# Altium footprint library Connector_PinHeader_2.54mm.PcbLib: 278 footprints (part 7 of 18)
Each footprint in its own frame and in the unit in brackets; x right, y up, seen from the top. Pads: shape width x height; smd on the part's side, far side on the other; paste and mask are expansions set on the pad; w line width, h text height; cw(c..) or ccw(c..) is an arc to the next point about the centre after c.
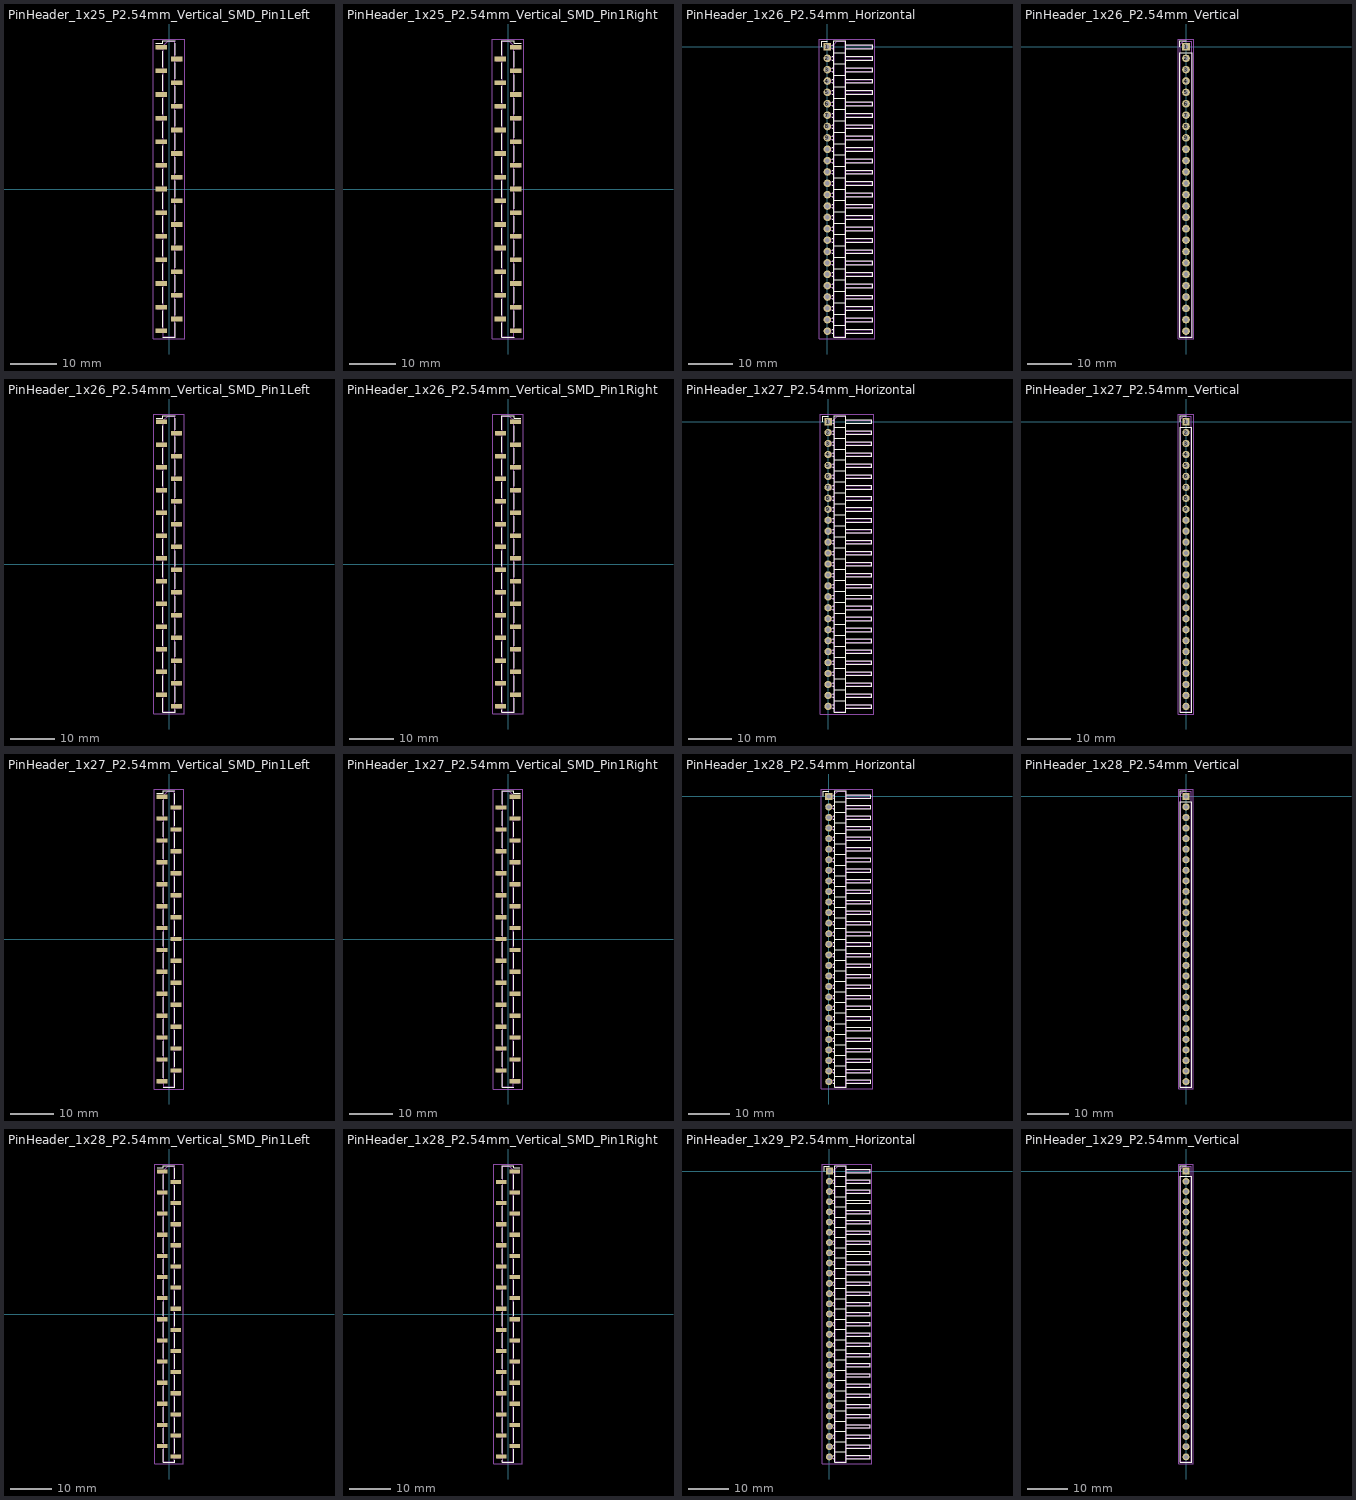
[diagram p6: the footprints below, top view; thin cyan lines are the x and y axes]

## PinHeader_1x25_P2.54mm_Vertical_SMD_Pin1Left [mm]
pads (25):
  rect 2.51x1 smd: 1(-1.655,30.48) 2(1.655,27.94) 3(-1.655,25.4) 4(1.655,22.86) 5(-1.655,20.32) 6(1.655,17.78) 7(-1.655,15.24) 8(1.655,12.7) 9(-1.655,10.16) 10(1.655,7.62) 11(-1.655,5.08) 12(1.655,2.54) 13(-1.655,0) 14(1.655,-2.54) 15(-1.655,-5.08) 16(1.655,-7.62) 17(-1.655,-10.16) 18(1.655,-12.7) 19(-1.655,-15.24) 20(1.655,-17.78) 21(-1.655,-20.32) 22(1.655,-22.86) 23(-1.655,-25.4) 24(1.655,-27.94) 25(-1.655,-30.48)
F.SilkS:
  lines w0.254: -2.85,31.29 -1.38,31.29 -1.38,31.86 1.38,31.86 ; -1.38,-31.86 1.38,-31.86 ; -1.38,-29.67 -1.38,-26.21 ; -1.38,-24.59 -1.38,-21.13 ; -1.38,-19.51 -1.38,-16.05 ; -1.38,-14.43 -1.38,-10.97 ; -1.38,-9.35 -1.38,-5.89 ; -1.38,-4.27 -1.38,-0.81 ; -1.38,0.81 -1.38,4.27 ; -1.38,5.89 -1.38,9.35 ; -1.38,10.97 -1.38,14.43 ; -1.38,16.05 -1.38,19.51 ; -1.38,21.13 -1.38,24.59 ; -1.38,26.21 -1.38,29.67 ; 1.38,-31.29 1.38,-31.86 ; 1.38,-28.75 1.38,-31.86 ; 1.38,-27.13 1.38,-23.67 ; 1.38,-22.05 1.38,-18.59 ; 1.38,-16.97 1.38,-13.51 ; 1.38,-11.89 1.38,-8.43 ; 1.38,-6.81 1.38,-3.35 ; 1.38,-1.73 1.38,1.73 ; 1.38,3.35 1.38,6.81 ; 1.38,8.43 1.38,11.89 ; 1.38,13.51 1.38,16.97 ; 1.38,18.59 1.38,22.05 ; 1.38,23.67 1.38,27.13 ; 1.38,28.75 1.38,31.29
Top Assembly:
  lines w0.254: -1.27,-30.8 -2.54,-30.8 -2.54,-30.16 -1.27,-30.16 ; -1.27,-25.72 -2.54,-25.72 -2.54,-25.08 -1.27,-25.08 ; -1.27,-20.64 -2.54,-20.64 -2.54,-20 -1.27,-20 ; -1.27,-15.56 -2.54,-15.56 -2.54,-14.92 -1.27,-14.92 ; -1.27,-10.48 -2.54,-10.48 -2.54,-9.84 -1.27,-9.84 ; -1.27,-5.4 -2.54,-5.4 -2.54,-4.76 -1.27,-4.76 ; -1.27,-0.32 -2.54,-0.32 -2.54,0.32 -1.27,0.32 ; -1.27,4.76 -2.54,4.76 -2.54,5.4 -1.27,5.4 ; -1.27,9.84 -2.54,9.84 -2.54,10.48 -1.27,10.48 ; -1.27,14.92 -2.54,14.92 -2.54,15.56 -1.27,15.56 ; -1.27,20 -2.54,20 -2.54,20.64 -1.27,20.64 ; -1.27,25.08 -2.54,25.08 -2.54,25.72 -1.27,25.72 ; -1.27,30.16 -2.54,30.16 -2.54,30.8 -1.27,30.8 ; 1.27,-28.26 2.54,-28.26 2.54,-27.62 1.27,-27.62 ; 1.27,-23.18 2.54,-23.18 2.54,-22.54 1.27,-22.54 ; 1.27,-18.1 2.54,-18.1 2.54,-17.46 1.27,-17.46 ; 1.27,-13.02 2.54,-13.02 2.54,-12.38 1.27,-12.38 ; 1.27,-7.94 2.54,-7.94 2.54,-7.3 1.27,-7.3 ; 1.27,-2.86 2.54,-2.86 2.54,-2.22 1.27,-2.22 ; 1.27,2.22 2.54,2.22 2.54,2.86 1.27,2.86 ; 1.27,7.3 2.54,7.3 2.54,7.94 1.27,7.94 ; 1.27,12.38 2.54,12.38 2.54,13.02 1.27,13.02 ; 1.27,17.46 2.54,17.46 2.54,18.1 1.27,18.1 ; 1.27,22.54 2.54,22.54 2.54,23.18 1.27,23.18 ; 1.27,27.62 2.54,27.62 2.54,28.26 1.27,28.26 ; -1.27,30.8 -1.27,-31.75 1.27,-31.75 1.27,31.75 -0.32,31.75 -1.27,30.8
  text "'.Designator'" at 0.84,-4.047 h1
Top Courtyard:
  lines w0.254: -3.41,-32.25 3.41,-32.25 3.41,32.25 -3.41,32.25 -3.41,-32.25
Top Designator:
  text ".Designator" at -7.618,-0.508 h1.52

## PinHeader_1x25_P2.54mm_Vertical_SMD_Pin1Right [mm]
pads (25):
  rect 2.51x1 smd: 1(1.655,30.48) 2(-1.655,27.94) 3(1.655,25.4) 4(-1.655,22.86) 5(1.655,20.32) 6(-1.655,17.78) 7(1.655,15.24) 8(-1.655,12.7) 9(1.655,10.16) 10(-1.655,7.62) 11(1.655,5.08) 12(-1.655,2.54) 13(1.655,0) 14(-1.655,-2.54) 15(1.655,-5.08) 16(-1.655,-7.62) 17(1.655,-10.16) 18(-1.655,-12.7) 19(1.655,-15.24) 20(-1.655,-17.78) 21(1.655,-20.32) 22(-1.655,-22.86) 23(1.655,-25.4) 24(-1.655,-27.94) 25(1.655,-30.48)
F.SilkS:
  lines w0.254: -1.38,-31.29 -1.38,-31.86 ; -1.38,-28.75 -1.38,-31.86 ; -1.38,-27.13 -1.38,-23.67 ; -1.38,-22.05 -1.38,-18.59 ; -1.38,-16.97 -1.38,-13.51 ; -1.38,-11.89 -1.38,-8.43 ; -1.38,-6.81 -1.38,-3.35 ; -1.38,-1.73 -1.38,1.73 ; -1.38,3.35 -1.38,6.81 ; -1.38,8.43 -1.38,11.89 ; -1.38,13.51 -1.38,16.97 ; -1.38,18.59 -1.38,22.05 ; -1.38,23.67 -1.38,27.13 ; -1.38,31.29 -1.38,28.75 -1.38,31.86 1.38,31.86 1.38,31.29 2.85,31.29 ; 1.38,-31.86 -1.38,-31.86 ; 1.38,-29.67 1.38,-26.21 ; 1.38,-24.59 1.38,-21.13 ; 1.38,-19.51 1.38,-16.05 ; 1.38,-14.43 1.38,-10.97 ; 1.38,-9.35 1.38,-5.89 ; 1.38,-4.27 1.38,-0.81 ; 1.38,0.81 1.38,4.27 ; 1.38,5.89 1.38,9.35 ; 1.38,10.97 1.38,14.43 ; 1.38,16.05 1.38,19.51 ; 1.38,21.13 1.38,24.59 ; 1.38,26.21 1.38,29.67
Top Assembly:
  lines w0.254: -1.27,-28.26 -2.54,-28.26 -2.54,-27.62 -1.27,-27.62 ; -1.27,-23.18 -2.54,-23.18 -2.54,-22.54 -1.27,-22.54 ; -1.27,-18.1 -2.54,-18.1 -2.54,-17.46 -1.27,-17.46 ; -1.27,-13.02 -2.54,-13.02 -2.54,-12.38 -1.27,-12.38 ; -1.27,-7.94 -2.54,-7.94 -2.54,-7.3 -1.27,-7.3 ; -1.27,-2.86 -2.54,-2.86 -2.54,-2.22 -1.27,-2.22 ; -1.27,2.22 -2.54,2.22 -2.54,2.86 -1.27,2.86 ; -1.27,7.3 -2.54,7.3 -2.54,7.94 -1.27,7.94 ; -1.27,12.38 -2.54,12.38 -2.54,13.02 -1.27,13.02 ; -1.27,17.46 -2.54,17.46 -2.54,18.1 -1.27,18.1 ; -1.27,22.54 -2.54,22.54 -2.54,23.18 -1.27,23.18 ; -1.27,27.62 -2.54,27.62 -2.54,28.26 -1.27,28.26 ; 1.27,-30.8 2.54,-30.8 2.54,-30.16 1.27,-30.16 ; 1.27,-25.72 2.54,-25.72 2.54,-25.08 1.27,-25.08 ; 1.27,-20.64 2.54,-20.64 2.54,-20 1.27,-20 ; 1.27,-15.56 2.54,-15.56 2.54,-14.92 1.27,-14.92 ; 1.27,-10.48 2.54,-10.48 2.54,-9.84 1.27,-9.84 ; 1.27,-5.4 2.54,-5.4 2.54,-4.76 1.27,-4.76 ; 1.27,-0.32 2.54,-0.32 2.54,0.32 1.27,0.32 ; 1.27,4.76 2.54,4.76 2.54,5.4 1.27,5.4 ; 1.27,9.84 2.54,9.84 2.54,10.48 1.27,10.48 ; 1.27,14.92 2.54,14.92 2.54,15.56 1.27,15.56 ; 1.27,20 2.54,20 2.54,20.64 1.27,20.64 ; 1.27,25.08 2.54,25.08 2.54,25.72 1.27,25.72 ; 1.27,30.16 2.54,30.16 2.54,30.8 1.27,30.8 ; 1.27,30.8 1.27,-31.75 -1.27,-31.75 -1.27,31.75 0.32,31.75 1.27,30.8
  text "'.Designator'" at 0.84,-4.047 h1
Top Courtyard:
  lines w0.254: -3.41,-32.25 3.41,-32.25 3.41,32.25 -3.41,32.25 -3.41,-32.25
Top Designator:
  text ".Designator" at -7.618,-0.508 h1.52

## PinHeader_1x26_P2.54mm_Horizontal [mm]
pads (26):
  rect 1.7x1.7 hole 1: 1(0,0)
  round 1.7 hole 1: 2(0,-2.54) 3(0,-5.08) 4(0,-7.62) 5(0,-10.16) 6(0,-12.7) 7(0,-15.24) 8(0,-17.78) 9(0,-20.32) 10(0,-22.86) 11(0,-25.4) 12(0,-27.94) 13(0,-30.48) 14(0,-33.02) 15(0,-35.56) 16(0,-38.1) 17(0,-40.64) 18(0,-43.18) 19(0,-45.72) 20(0,-48.26) 21(0,-50.8) 22(0,-53.34) 23(0,-55.88) 24(0,-58.42) 25(0,-60.96) 26(0,-63.5)
F.SilkS:
  drawing of 162 lines, arcs and shapes, not listed
Top Assembly:
  drawing of 161 lines, arcs and shapes, not listed
  text "'.Designator'" at 3.61,-35.797 h1
Top Courtyard:
  lines w0.254: -1.77,-65.27 10.54,-65.27 10.54,1.77 -1.77,1.77 -1.77,-65.27
Top Designator:
  text ".Designator" at -3.233,-32.258 h1.52

## PinHeader_1x26_P2.54mm_Vertical [mm]
pads (26):
  rect 1.7x1.7 hole 1: 1(0,0)
  round 1.7 hole 1: 2(0,-2.54) 3(0,-5.08) 4(0,-7.62) 5(0,-10.16) 6(0,-12.7) 7(0,-15.24) 8(0,-17.78) 9(0,-20.32) 10(0,-22.86) 11(0,-25.4) 12(0,-27.94) 13(0,-30.48) 14(0,-33.02) 15(0,-35.56) 16(0,-38.1) 17(0,-40.64) 18(0,-43.18) 19(0,-45.72) 20(0,-48.26) 21(0,-50.8) 22(0,-53.34) 23(0,-55.88) 24(0,-58.42) 25(0,-60.96) 26(0,-63.5)
F.SilkS:
  lines w0.254: -1.38,0 -1.38,1.38 0,1.38 ; -1.38,-64.88 1.38,-64.88 1.38,-1.27 -1.38,-1.27 -1.38,-64.88
Top Assembly:
  lines w0.254: -1.27,-64.77 1.27,-64.77 1.27,1.27 -0.635,1.27 -1.27,0.635 -1.27,-64.77
  text "'.Designator'" at 0.84,-35.797 h1
Top Courtyard:
  lines w0.254: -1.77,-65.27 1.77,-65.27 1.77,1.77 -1.77,1.77 -1.77,-65.27
Top Designator:
  text ".Designator" at -7.618,-32.258 h1.52

## PinHeader_1x26_P2.54mm_Vertical_SMD_Pin1Left [mm]
pads (26):
  rect 2.51x1 smd: 1(-1.655,31.75) 2(1.655,29.21) 3(-1.655,26.67) 4(1.655,24.13) 5(-1.655,21.59) 6(1.655,19.05) 7(-1.655,16.51) 8(1.655,13.97) 9(-1.655,11.43) 10(1.655,8.89) 11(-1.655,6.35) 12(1.655,3.81) 13(-1.655,1.27) 14(1.655,-1.27) 15(-1.655,-3.81) 16(1.655,-6.35) 17(-1.655,-8.89) 18(1.655,-11.43) 19(-1.655,-13.97) 20(1.655,-16.51) 21(-1.655,-19.05) 22(1.655,-21.59) 23(-1.655,-24.13) 24(1.655,-26.67) 25(-1.655,-29.21) 26(1.655,-31.75)
F.SilkS:
  lines w0.254: -2.85,32.56 -1.38,32.56 -1.38,33.13 1.38,33.13 ; -1.38,-30.02 -1.38,-33.13 1.38,-33.13 1.38,-32.56 ; -1.38,-28.4 -1.38,-24.94 ; -1.38,-23.32 -1.38,-19.86 ; -1.38,-18.24 -1.38,-14.78 ; -1.38,-13.16 -1.38,-9.7 ; -1.38,-8.08 -1.38,-4.62 ; -1.38,-3 -1.38,0.46 ; -1.38,2.08 -1.38,5.54 ; -1.38,7.16 -1.38,10.62 ; -1.38,12.24 -1.38,15.7 ; -1.38,17.32 -1.38,20.78 ; -1.38,22.4 -1.38,25.86 ; -1.38,27.48 -1.38,30.94 ; 1.38,-30.94 1.38,-27.48 ; 1.38,-25.86 1.38,-22.4 ; 1.38,-20.78 1.38,-17.32 ; 1.38,-15.7 1.38,-12.24 ; 1.38,-10.62 1.38,-7.16 ; 1.38,-5.54 1.38,-2.08 ; 1.38,-0.46 1.38,3 ; 1.38,4.62 1.38,8.08 ; 1.38,9.7 1.38,13.16 ; 1.38,14.78 1.38,18.24 ; 1.38,19.86 1.38,23.32 ; 1.38,24.94 1.38,28.4 ; 1.38,30.02 1.38,32.56
Top Assembly:
  lines w0.254: -1.27,-29.53 -2.54,-29.53 -2.54,-28.89 -1.27,-28.89 ; -1.27,-24.45 -2.54,-24.45 -2.54,-23.81 -1.27,-23.81 ; -1.27,-19.37 -2.54,-19.37 -2.54,-18.73 -1.27,-18.73 ; -1.27,-14.29 -2.54,-14.29 -2.54,-13.65 -1.27,-13.65 ; -1.27,-9.21 -2.54,-9.21 -2.54,-8.57 -1.27,-8.57 ; -1.27,-4.13 -2.54,-4.13 -2.54,-3.49 -1.27,-3.49 ; -1.27,0.95 -2.54,0.95 -2.54,1.59 -1.27,1.59 ; -1.27,6.03 -2.54,6.03 -2.54,6.67 -1.27,6.67 ; -1.27,11.11 -2.54,11.11 -2.54,11.75 -1.27,11.75 ; -1.27,16.19 -2.54,16.19 -2.54,16.83 -1.27,16.83 ; -1.27,21.27 -2.54,21.27 -2.54,21.91 -1.27,21.91 ; -1.27,26.35 -2.54,26.35 -2.54,26.99 -1.27,26.99 ; -1.27,31.43 -2.54,31.43 -2.54,32.07 -1.27,32.07 ; 1.27,-32.07 2.54,-32.07 2.54,-31.43 1.27,-31.43 ; 1.27,-26.99 2.54,-26.99 2.54,-26.35 1.27,-26.35 ; 1.27,-21.91 2.54,-21.91 2.54,-21.27 1.27,-21.27 ; 1.27,-16.83 2.54,-16.83 2.54,-16.19 1.27,-16.19 ; 1.27,-11.75 2.54,-11.75 2.54,-11.11 1.27,-11.11 ; 1.27,-6.67 2.54,-6.67 2.54,-6.03 1.27,-6.03 ; 1.27,-1.59 2.54,-1.59 2.54,-0.95 1.27,-0.95 ; 1.27,3.49 2.54,3.49 2.54,4.13 1.27,4.13 ; 1.27,8.57 2.54,8.57 2.54,9.21 1.27,9.21 ; 1.27,13.65 2.54,13.65 2.54,14.29 1.27,14.29 ; 1.27,18.73 2.54,18.73 2.54,19.37 1.27,19.37 ; 1.27,23.81 2.54,23.81 2.54,24.45 1.27,24.45 ; 1.27,28.89 2.54,28.89 2.54,29.53 1.27,29.53 ; -1.27,32.07 -1.27,-33.02 1.27,-33.02 1.27,33.02 -0.32,33.02 -1.27,32.07
  text "'.Designator'" at 0.84,-4.047 h1
Top Courtyard:
  lines w0.254: -3.41,-33.52 3.41,-33.52 3.41,33.52 -3.41,33.52 -3.41,-33.52
Top Designator:
  text ".Designator" at -7.618,-0.508 h1.52

## PinHeader_1x26_P2.54mm_Vertical_SMD_Pin1Right [mm]
pads (26):
  rect 2.51x1 smd: 1(1.655,31.75) 2(-1.655,29.21) 3(1.655,26.67) 4(-1.655,24.13) 5(1.655,21.59) 6(-1.655,19.05) 7(1.655,16.51) 8(-1.655,13.97) 9(1.655,11.43) 10(-1.655,8.89) 11(1.655,6.35) 12(-1.655,3.81) 13(1.655,1.27) 14(-1.655,-1.27) 15(1.655,-3.81) 16(-1.655,-6.35) 17(1.655,-8.89) 18(-1.655,-11.43) 19(1.655,-13.97) 20(-1.655,-16.51) 21(1.655,-19.05) 22(-1.655,-21.59) 23(1.655,-24.13) 24(-1.655,-26.67) 25(1.655,-29.21) 26(-1.655,-31.75)
F.SilkS:
  lines w0.254: -1.38,-32.56 -1.38,-33.13 1.38,-33.13 1.38,-30.02 ; -1.38,-30.94 -1.38,-27.48 ; -1.38,-25.86 -1.38,-22.4 ; -1.38,-20.78 -1.38,-17.32 ; -1.38,-15.7 -1.38,-12.24 ; -1.38,-10.62 -1.38,-7.16 ; -1.38,-5.54 -1.38,-2.08 ; -1.38,-0.46 -1.38,3 ; -1.38,4.62 -1.38,8.08 ; -1.38,9.7 -1.38,13.16 ; -1.38,14.78 -1.38,18.24 ; -1.38,19.86 -1.38,23.32 ; -1.38,24.94 -1.38,28.4 ; -1.38,32.56 -1.38,30.02 -1.38,33.13 1.38,33.13 1.38,32.56 2.85,32.56 ; 1.38,-28.4 1.38,-24.94 ; 1.38,-23.32 1.38,-19.86 ; 1.38,-18.24 1.38,-14.78 ; 1.38,-13.16 1.38,-9.7 ; 1.38,-8.08 1.38,-4.62 ; 1.38,-3 1.38,0.46 ; 1.38,2.08 1.38,5.54 ; 1.38,7.16 1.38,10.62 ; 1.38,12.24 1.38,15.7 ; 1.38,17.32 1.38,20.78 ; 1.38,22.4 1.38,25.86 ; 1.38,27.48 1.38,30.94
Top Assembly:
  lines w0.254: -1.27,-32.07 -2.54,-32.07 -2.54,-31.43 -1.27,-31.43 ; -1.27,-26.99 -2.54,-26.99 -2.54,-26.35 -1.27,-26.35 ; -1.27,-21.91 -2.54,-21.91 -2.54,-21.27 -1.27,-21.27 ; -1.27,-16.83 -2.54,-16.83 -2.54,-16.19 -1.27,-16.19 ; -1.27,-11.75 -2.54,-11.75 -2.54,-11.11 -1.27,-11.11 ; -1.27,-6.67 -2.54,-6.67 -2.54,-6.03 -1.27,-6.03 ; -1.27,-1.59 -2.54,-1.59 -2.54,-0.95 -1.27,-0.95 ; -1.27,3.49 -2.54,3.49 -2.54,4.13 -1.27,4.13 ; -1.27,8.57 -2.54,8.57 -2.54,9.21 -1.27,9.21 ; -1.27,13.65 -2.54,13.65 -2.54,14.29 -1.27,14.29 ; -1.27,18.73 -2.54,18.73 -2.54,19.37 -1.27,19.37 ; -1.27,23.81 -2.54,23.81 -2.54,24.45 -1.27,24.45 ; -1.27,28.89 -2.54,28.89 -2.54,29.53 -1.27,29.53 ; 1.27,-29.53 2.54,-29.53 2.54,-28.89 1.27,-28.89 ; 1.27,-24.45 2.54,-24.45 2.54,-23.81 1.27,-23.81 ; 1.27,-19.37 2.54,-19.37 2.54,-18.73 1.27,-18.73 ; 1.27,-14.29 2.54,-14.29 2.54,-13.65 1.27,-13.65 ; 1.27,-9.21 2.54,-9.21 2.54,-8.57 1.27,-8.57 ; 1.27,-4.13 2.54,-4.13 2.54,-3.49 1.27,-3.49 ; 1.27,0.95 2.54,0.95 2.54,1.59 1.27,1.59 ; 1.27,6.03 2.54,6.03 2.54,6.67 1.27,6.67 ; 1.27,11.11 2.54,11.11 2.54,11.75 1.27,11.75 ; 1.27,16.19 2.54,16.19 2.54,16.83 1.27,16.83 ; 1.27,21.27 2.54,21.27 2.54,21.91 1.27,21.91 ; 1.27,26.35 2.54,26.35 2.54,26.99 1.27,26.99 ; 1.27,31.43 2.54,31.43 2.54,32.07 1.27,32.07 ; 1.27,32.07 1.27,-33.02 -1.27,-33.02 -1.27,33.02 0.32,33.02 1.27,32.07
  text "'.Designator'" at 0.84,-4.047 h1
Top Courtyard:
  lines w0.254: -3.41,-33.52 3.41,-33.52 3.41,33.52 -3.41,33.52 -3.41,-33.52
Top Designator:
  text ".Designator" at -7.618,-0.508 h1.52

## PinHeader_1x27_P2.54mm_Horizontal [mm]
pads (27):
  rect 1.7x1.7 hole 1: 1(0,0)
  round 1.7 hole 1: 2(0,-2.54) 3(0,-5.08) 4(0,-7.62) 5(0,-10.16) 6(0,-12.7) 7(0,-15.24) 8(0,-17.78) 9(0,-20.32) 10(0,-22.86) 11(0,-25.4) 12(0,-27.94) 13(0,-30.48) 14(0,-33.02) 15(0,-35.56) 16(0,-38.1) 17(0,-40.64) 18(0,-43.18) 19(0,-45.72) 20(0,-48.26) 21(0,-50.8) 22(0,-53.34) 23(0,-55.88) 24(0,-58.42) 25(0,-60.96) 26(0,-63.5) 27(0,-66.04)
F.SilkS:
  drawing of 168 lines, arcs and shapes, not listed
Top Assembly:
  drawing of 167 lines, arcs and shapes, not listed
  text "'.Designator'" at 3.61,-37.067 h1
Top Courtyard:
  lines w0.254: -1.77,-67.81 10.54,-67.81 10.54,1.77 -1.77,1.77 -1.77,-67.81
Top Designator:
  text ".Designator" at -3.233,-33.528 h1.52

## PinHeader_1x27_P2.54mm_Vertical [mm]
pads (27):
  rect 1.7x1.7 hole 1: 1(0,0)
  round 1.7 hole 1: 2(0,-2.54) 3(0,-5.08) 4(0,-7.62) 5(0,-10.16) 6(0,-12.7) 7(0,-15.24) 8(0,-17.78) 9(0,-20.32) 10(0,-22.86) 11(0,-25.4) 12(0,-27.94) 13(0,-30.48) 14(0,-33.02) 15(0,-35.56) 16(0,-38.1) 17(0,-40.64) 18(0,-43.18) 19(0,-45.72) 20(0,-48.26) 21(0,-50.8) 22(0,-53.34) 23(0,-55.88) 24(0,-58.42) 25(0,-60.96) 26(0,-63.5) 27(0,-66.04)
F.SilkS:
  lines w0.254: -1.38,0 -1.38,1.38 0,1.38 ; -1.38,-67.42 1.38,-67.42 1.38,-1.27 -1.38,-1.27 -1.38,-67.42
Top Assembly:
  lines w0.254: -1.27,-67.31 1.27,-67.31 1.27,1.27 -0.635,1.27 -1.27,0.635 -1.27,-67.31
  text "'.Designator'" at 0.84,-37.067 h1
Top Courtyard:
  lines w0.254: -1.77,-67.81 1.77,-67.81 1.77,1.77 -1.77,1.77 -1.77,-67.81
Top Designator:
  text ".Designator" at -7.618,-33.528 h1.52

## PinHeader_1x27_P2.54mm_Vertical_SMD_Pin1Left [mm]
pads (27):
  rect 2.51x1 smd: 1(-1.655,33.02) 2(1.655,30.48) 3(-1.655,27.94) 4(1.655,25.4) 5(-1.655,22.86) 6(1.655,20.32) 7(-1.655,17.78) 8(1.655,15.24) 9(-1.655,12.7) 10(1.655,10.16) 11(-1.655,7.62) 12(1.655,5.08) 13(-1.655,2.54) 14(1.655,0) 15(-1.655,-2.54) 16(1.655,-5.08) 17(-1.655,-7.62) 18(1.655,-10.16) 19(-1.655,-12.7) 20(1.655,-15.24) 21(-1.655,-17.78) 22(1.655,-20.32) 23(-1.655,-22.86) 24(1.655,-25.4) 25(-1.655,-27.94) 26(1.655,-30.48) 27(-1.655,-33.02)
F.SilkS:
  lines w0.254: -2.85,33.83 -1.38,33.83 -1.38,34.4 1.38,34.4 ; -1.38,-34.4 1.38,-34.4 ; -1.38,-32.21 -1.38,-28.75 ; -1.38,-27.13 -1.38,-23.67 ; -1.38,-22.05 -1.38,-18.59 ; -1.38,-16.97 -1.38,-13.51 ; -1.38,-11.89 -1.38,-8.43 ; -1.38,-6.81 -1.38,-3.35 ; -1.38,-1.73 -1.38,1.73 ; -1.38,3.35 -1.38,6.81 ; -1.38,8.43 -1.38,11.89 ; -1.38,13.51 -1.38,16.97 ; -1.38,18.59 -1.38,22.05 ; -1.38,23.67 -1.38,27.13 ; -1.38,28.75 -1.38,32.21 ; 1.38,-33.83 1.38,-34.4 ; 1.38,-31.29 1.38,-34.4 ; 1.38,-29.67 1.38,-26.21 ; 1.38,-24.59 1.38,-21.13 ; 1.38,-19.51 1.38,-16.05 ; 1.38,-14.43 1.38,-10.97 ; 1.38,-9.35 1.38,-5.89 ; 1.38,-4.27 1.38,-0.81 ; 1.38,0.81 1.38,4.27 ; 1.38,5.89 1.38,9.35 ; 1.38,10.97 1.38,14.43 ; 1.38,16.05 1.38,19.51 ; 1.38,21.13 1.38,24.59 ; 1.38,26.21 1.38,29.67 ; 1.38,31.29 1.38,33.83
Top Assembly:
  lines w0.254: -1.27,-33.34 -2.54,-33.34 -2.54,-32.7 -1.27,-32.7 ; -1.27,-28.26 -2.54,-28.26 -2.54,-27.62 -1.27,-27.62 ; -1.27,-23.18 -2.54,-23.18 -2.54,-22.54 -1.27,-22.54 ; -1.27,-18.1 -2.54,-18.1 -2.54,-17.46 -1.27,-17.46 ; -1.27,-13.02 -2.54,-13.02 -2.54,-12.38 -1.27,-12.38 ; -1.27,-7.94 -2.54,-7.94 -2.54,-7.3 -1.27,-7.3 ; -1.27,-2.86 -2.54,-2.86 -2.54,-2.22 -1.27,-2.22 ; -1.27,2.22 -2.54,2.22 -2.54,2.86 -1.27,2.86 ; -1.27,7.3 -2.54,7.3 -2.54,7.94 -1.27,7.94 ; -1.27,12.38 -2.54,12.38 -2.54,13.02 -1.27,13.02 ; -1.27,17.46 -2.54,17.46 -2.54,18.1 -1.27,18.1 ; -1.27,22.54 -2.54,22.54 -2.54,23.18 -1.27,23.18 ; -1.27,27.62 -2.54,27.62 -2.54,28.26 -1.27,28.26 ; -1.27,32.7 -2.54,32.7 -2.54,33.34 -1.27,33.34 ; 1.27,-30.8 2.54,-30.8 2.54,-30.16 1.27,-30.16 ; 1.27,-25.72 2.54,-25.72 2.54,-25.08 1.27,-25.08 ; 1.27,-20.64 2.54,-20.64 2.54,-20 1.27,-20 ; 1.27,-15.56 2.54,-15.56 2.54,-14.92 1.27,-14.92 ; 1.27,-10.48 2.54,-10.48 2.54,-9.84 1.27,-9.84 ; 1.27,-5.4 2.54,-5.4 2.54,-4.76 1.27,-4.76 ; 1.27,-0.32 2.54,-0.32 2.54,0.32 1.27,0.32 ; 1.27,4.76 2.54,4.76 2.54,5.4 1.27,5.4 ; 1.27,9.84 2.54,9.84 2.54,10.48 1.27,10.48 ; 1.27,14.92 2.54,14.92 2.54,15.56 1.27,15.56 ; 1.27,20 2.54,20 2.54,20.64 1.27,20.64 ; 1.27,25.08 2.54,25.08 2.54,25.72 1.27,25.72 ; 1.27,30.16 2.54,30.16 2.54,30.8 1.27,30.8 ; -1.27,33.34 -1.27,-34.29 1.27,-34.29 1.27,34.29 -0.32,34.29 -1.27,33.34
  text "'.Designator'" at 0.84,-4.047 h1
Top Courtyard:
  lines w0.254: -3.41,-34.79 3.41,-34.79 3.41,34.79 -3.41,34.79 -3.41,-34.79
Top Designator:
  text ".Designator" at -7.618,-0.508 h1.52

## PinHeader_1x27_P2.54mm_Vertical_SMD_Pin1Right [mm]
pads (27):
  rect 2.51x1 smd: 1(1.655,33.02) 2(-1.655,30.48) 3(1.655,27.94) 4(-1.655,25.4) 5(1.655,22.86) 6(-1.655,20.32) 7(1.655,17.78) 8(-1.655,15.24) 9(1.655,12.7) 10(-1.655,10.16) 11(1.655,7.62) 12(-1.655,5.08) 13(1.655,2.54) 14(-1.655,0) 15(1.655,-2.54) 16(-1.655,-5.08) 17(1.655,-7.62) 18(-1.655,-10.16) 19(1.655,-12.7) 20(-1.655,-15.24) 21(1.655,-17.78) 22(-1.655,-20.32) 23(1.655,-22.86) 24(-1.655,-25.4) 25(1.655,-27.94) 26(-1.655,-30.48) 27(1.655,-33.02)
F.SilkS:
  lines w0.254: -1.38,-33.83 -1.38,-34.4 ; -1.38,-31.29 -1.38,-34.4 ; -1.38,-29.67 -1.38,-26.21 ; -1.38,-24.59 -1.38,-21.13 ; -1.38,-19.51 -1.38,-16.05 ; -1.38,-14.43 -1.38,-10.97 ; -1.38,-9.35 -1.38,-5.89 ; -1.38,-4.27 -1.38,-0.81 ; -1.38,0.81 -1.38,4.27 ; -1.38,5.89 -1.38,9.35 ; -1.38,10.97 -1.38,14.43 ; -1.38,16.05 -1.38,19.51 ; -1.38,21.13 -1.38,24.59 ; -1.38,26.21 -1.38,29.67 ; -1.38,33.83 -1.38,31.29 -1.38,34.4 1.38,34.4 1.38,33.83 2.85,33.83 ; 1.38,-34.4 -1.38,-34.4 ; 1.38,-32.21 1.38,-28.75 ; 1.38,-27.13 1.38,-23.67 ; 1.38,-22.05 1.38,-18.59 ; 1.38,-16.97 1.38,-13.51 ; 1.38,-11.89 1.38,-8.43 ; 1.38,-6.81 1.38,-3.35 ; 1.38,-1.73 1.38,1.73 ; 1.38,3.35 1.38,6.81 ; 1.38,8.43 1.38,11.89 ; 1.38,13.51 1.38,16.97 ; 1.38,18.59 1.38,22.05 ; 1.38,23.67 1.38,27.13 ; 1.38,28.75 1.38,32.21
Top Assembly:
  lines w0.254: -1.27,-30.8 -2.54,-30.8 -2.54,-30.16 -1.27,-30.16 ; -1.27,-25.72 -2.54,-25.72 -2.54,-25.08 -1.27,-25.08 ; -1.27,-20.64 -2.54,-20.64 -2.54,-20 -1.27,-20 ; -1.27,-15.56 -2.54,-15.56 -2.54,-14.92 -1.27,-14.92 ; -1.27,-10.48 -2.54,-10.48 -2.54,-9.84 -1.27,-9.84 ; -1.27,-5.4 -2.54,-5.4 -2.54,-4.76 -1.27,-4.76 ; -1.27,-0.32 -2.54,-0.32 -2.54,0.32 -1.27,0.32 ; -1.27,4.76 -2.54,4.76 -2.54,5.4 -1.27,5.4 ; -1.27,9.84 -2.54,9.84 -2.54,10.48 -1.27,10.48 ; -1.27,14.92 -2.54,14.92 -2.54,15.56 -1.27,15.56 ; -1.27,20 -2.54,20 -2.54,20.64 -1.27,20.64 ; -1.27,25.08 -2.54,25.08 -2.54,25.72 -1.27,25.72 ; -1.27,30.16 -2.54,30.16 -2.54,30.8 -1.27,30.8 ; 1.27,-33.34 2.54,-33.34 2.54,-32.7 1.27,-32.7 ; 1.27,-28.26 2.54,-28.26 2.54,-27.62 1.27,-27.62 ; 1.27,-23.18 2.54,-23.18 2.54,-22.54 1.27,-22.54 ; 1.27,-18.1 2.54,-18.1 2.54,-17.46 1.27,-17.46 ; 1.27,-13.02 2.54,-13.02 2.54,-12.38 1.27,-12.38 ; 1.27,-7.94 2.54,-7.94 2.54,-7.3 1.27,-7.3 ; 1.27,-2.86 2.54,-2.86 2.54,-2.22 1.27,-2.22 ; 1.27,2.22 2.54,2.22 2.54,2.86 1.27,2.86 ; 1.27,7.3 2.54,7.3 2.54,7.94 1.27,7.94 ; 1.27,12.38 2.54,12.38 2.54,13.02 1.27,13.02 ; 1.27,17.46 2.54,17.46 2.54,18.1 1.27,18.1 ; 1.27,22.54 2.54,22.54 2.54,23.18 1.27,23.18 ; 1.27,27.62 2.54,27.62 2.54,28.26 1.27,28.26 ; 1.27,32.7 2.54,32.7 2.54,33.34 1.27,33.34 ; 1.27,33.34 1.27,-34.29 -1.27,-34.29 -1.27,34.29 0.32,34.29 1.27,33.34
  text "'.Designator'" at 0.84,-4.047 h1
Top Courtyard:
  lines w0.254: -3.41,-34.79 3.41,-34.79 3.41,34.79 -3.41,34.79 -3.41,-34.79
Top Designator:
  text ".Designator" at -7.618,-0.508 h1.52

## PinHeader_1x28_P2.54mm_Horizontal [mm]
pads (28):
  rect 1.7x1.7 hole 1: 1(0,0)
  round 1.7 hole 1: 2(0,-2.54) 3(0,-5.08) 4(0,-7.62) 5(0,-10.16) 6(0,-12.7) 7(0,-15.24) 8(0,-17.78) 9(0,-20.32) 10(0,-22.86) 11(0,-25.4) 12(0,-27.94) 13(0,-30.48) 14(0,-33.02) 15(0,-35.56) 16(0,-38.1) 17(0,-40.64) 18(0,-43.18) 19(0,-45.72) 20(0,-48.26) 21(0,-50.8) 22(0,-53.34) 23(0,-55.88) 24(0,-58.42) 25(0,-60.96) 26(0,-63.5) 27(0,-66.04) 28(0,-68.58)
F.SilkS:
  drawing of 174 lines, arcs and shapes, not listed
Top Assembly:
  drawing of 173 lines, arcs and shapes, not listed
  text "'.Designator'" at 3.61,-38.337 h1
Top Courtyard:
  lines w0.254: -1.77,-70.35 10.54,-70.35 10.54,1.77 -1.77,1.77 -1.77,-70.35
Top Designator:
  text ".Designator" at -3.233,-34.798 h1.52

## PinHeader_1x28_P2.54mm_Vertical [mm]
pads (28):
  rect 1.7x1.7 hole 1: 1(0,0)
  round 1.7 hole 1: 2(0,-2.54) 3(0,-5.08) 4(0,-7.62) 5(0,-10.16) 6(0,-12.7) 7(0,-15.24) 8(0,-17.78) 9(0,-20.32) 10(0,-22.86) 11(0,-25.4) 12(0,-27.94) 13(0,-30.48) 14(0,-33.02) 15(0,-35.56) 16(0,-38.1) 17(0,-40.64) 18(0,-43.18) 19(0,-45.72) 20(0,-48.26) 21(0,-50.8) 22(0,-53.34) 23(0,-55.88) 24(0,-58.42) 25(0,-60.96) 26(0,-63.5) 27(0,-66.04) 28(0,-68.58)
F.SilkS:
  lines w0.254: -1.38,0 -1.38,1.38 0,1.38 ; -1.38,-69.96 1.38,-69.96 1.38,-1.27 -1.38,-1.27 -1.38,-69.96
Top Assembly:
  lines w0.254: -1.27,-69.85 1.27,-69.85 1.27,1.27 -0.635,1.27 -1.27,0.635 -1.27,-69.85
  text "'.Designator'" at 0.84,-38.337 h1
Top Courtyard:
  lines w0.254: -1.77,-70.35 1.77,-70.35 1.77,1.77 -1.77,1.77 -1.77,-70.35
Top Designator:
  text ".Designator" at -7.618,-34.798 h1.52

## PinHeader_1x28_P2.54mm_Vertical_SMD_Pin1Left [mm]
pads (28):
  rect 2.51x1 smd: 1(-1.655,34.29) 2(1.655,31.75) 3(-1.655,29.21) 4(1.655,26.67) 5(-1.655,24.13) 6(1.655,21.59) 7(-1.655,19.05) 8(1.655,16.51) 9(-1.655,13.97) 10(1.655,11.43) 11(-1.655,8.89) 12(1.655,6.35) 13(-1.655,3.81) 14(1.655,1.27) 15(-1.655,-1.27) 16(1.655,-3.81) 17(-1.655,-6.35) 18(1.655,-8.89) 19(-1.655,-11.43) 20(1.655,-13.97) 21(-1.655,-16.51) 22(1.655,-19.05) 23(-1.655,-21.59) 24(1.655,-24.13) 25(-1.655,-26.67) 26(1.655,-29.21) 27(-1.655,-31.75) 28(1.655,-34.29)
F.SilkS:
  lines w0.254: -2.85,35.1 -1.38,35.1 -1.38,35.67 1.38,35.67 ; -1.38,-32.56 -1.38,-35.67 1.38,-35.67 1.38,-35.1 ; -1.38,-30.94 -1.38,-27.48 ; -1.38,-25.86 -1.38,-22.4 ; -1.38,-20.78 -1.38,-17.32 ; -1.38,-15.7 -1.38,-12.24 ; -1.38,-10.62 -1.38,-7.16 ; -1.38,-5.54 -1.38,-2.08 ; -1.38,-0.46 -1.38,3 ; -1.38,4.62 -1.38,8.08 ; -1.38,9.7 -1.38,13.16 ; -1.38,14.78 -1.38,18.24 ; -1.38,19.86 -1.38,23.32 ; -1.38,24.94 -1.38,28.4 ; -1.38,30.02 -1.38,33.48 ; 1.38,-33.48 1.38,-30.02 ; 1.38,-28.4 1.38,-24.94 ; 1.38,-23.32 1.38,-19.86 ; 1.38,-18.24 1.38,-14.78 ; 1.38,-13.16 1.38,-9.7 ; 1.38,-8.08 1.38,-4.62 ; 1.38,-3 1.38,0.46 ; 1.38,2.08 1.38,5.54 ; 1.38,7.16 1.38,10.62 ; 1.38,12.24 1.38,15.7 ; 1.38,17.32 1.38,20.78 ; 1.38,22.4 1.38,25.86 ; 1.38,27.48 1.38,30.94 ; 1.38,32.56 1.38,35.1
Top Assembly:
  lines w0.254: -1.27,-32.07 -2.54,-32.07 -2.54,-31.43 -1.27,-31.43 ; -1.27,-26.99 -2.54,-26.99 -2.54,-26.35 -1.27,-26.35 ; -1.27,-21.91 -2.54,-21.91 -2.54,-21.27 -1.27,-21.27 ; -1.27,-16.83 -2.54,-16.83 -2.54,-16.19 -1.27,-16.19 ; -1.27,-11.75 -2.54,-11.75 -2.54,-11.11 -1.27,-11.11 ; -1.27,-6.67 -2.54,-6.67 -2.54,-6.03 -1.27,-6.03 ; -1.27,-1.59 -2.54,-1.59 -2.54,-0.95 -1.27,-0.95 ; -1.27,3.49 -2.54,3.49 -2.54,4.13 -1.27,4.13 ; -1.27,8.57 -2.54,8.57 -2.54,9.21 -1.27,9.21 ; -1.27,13.65 -2.54,13.65 -2.54,14.29 -1.27,14.29 ; -1.27,18.73 -2.54,18.73 -2.54,19.37 -1.27,19.37 ; -1.27,23.81 -2.54,23.81 -2.54,24.45 -1.27,24.45 ; -1.27,28.89 -2.54,28.89 -2.54,29.53 -1.27,29.53 ; -1.27,33.97 -2.54,33.97 -2.54,34.61 -1.27,34.61 ; 1.27,-34.61 2.54,-34.61 2.54,-33.97 1.27,-33.97 ; 1.27,-29.53 2.54,-29.53 2.54,-28.89 1.27,-28.89 ; 1.27,-24.45 2.54,-24.45 2.54,-23.81 1.27,-23.81 ; 1.27,-19.37 2.54,-19.37 2.54,-18.73 1.27,-18.73 ; 1.27,-14.29 2.54,-14.29 2.54,-13.65 1.27,-13.65 ; 1.27,-9.21 2.54,-9.21 2.54,-8.57 1.27,-8.57 ; 1.27,-4.13 2.54,-4.13 2.54,-3.49 1.27,-3.49 ; 1.27,0.95 2.54,0.95 2.54,1.59 1.27,1.59 ; 1.27,6.03 2.54,6.03 2.54,6.67 1.27,6.67 ; 1.27,11.11 2.54,11.11 2.54,11.75 1.27,11.75 ; 1.27,16.19 2.54,16.19 2.54,16.83 1.27,16.83 ; 1.27,21.27 2.54,21.27 2.54,21.91 1.27,21.91 ; 1.27,26.35 2.54,26.35 2.54,26.99 1.27,26.99 ; 1.27,31.43 2.54,31.43 2.54,32.07 1.27,32.07 ; -1.27,34.61 -1.27,-35.56 1.27,-35.56 1.27,35.56 -0.32,35.56 -1.27,34.61
  text "'.Designator'" at 0.84,-4.047 h1
Top Courtyard:
  lines w0.254: -3.41,-36.06 3.41,-36.06 3.41,36.06 -3.41,36.06 -3.41,-36.06
Top Designator:
  text ".Designator" at -7.618,-0.508 h1.52

## PinHeader_1x28_P2.54mm_Vertical_SMD_Pin1Right [mm]
pads (28):
  rect 2.51x1 smd: 1(1.655,34.29) 2(-1.655,31.75) 3(1.655,29.21) 4(-1.655,26.67) 5(1.655,24.13) 6(-1.655,21.59) 7(1.655,19.05) 8(-1.655,16.51) 9(1.655,13.97) 10(-1.655,11.43) 11(1.655,8.89) 12(-1.655,6.35) 13(1.655,3.81) 14(-1.655,1.27) 15(1.655,-1.27) 16(-1.655,-3.81) 17(1.655,-6.35) 18(-1.655,-8.89) 19(1.655,-11.43) 20(-1.655,-13.97) 21(1.655,-16.51) 22(-1.655,-19.05) 23(1.655,-21.59) 24(-1.655,-24.13) 25(1.655,-26.67) 26(-1.655,-29.21) 27(1.655,-31.75) 28(-1.655,-34.29)
F.SilkS:
  lines w0.254: -1.38,-35.1 -1.38,-35.67 1.38,-35.67 1.38,-32.56 ; -1.38,-33.48 -1.38,-30.02 ; -1.38,-28.4 -1.38,-24.94 ; -1.38,-23.32 -1.38,-19.86 ; -1.38,-18.24 -1.38,-14.78 ; -1.38,-13.16 -1.38,-9.7 ; -1.38,-8.08 -1.38,-4.62 ; -1.38,-3 -1.38,0.46 ; -1.38,2.08 -1.38,5.54 ; -1.38,7.16 -1.38,10.62 ; -1.38,12.24 -1.38,15.7 ; -1.38,17.32 -1.38,20.78 ; -1.38,22.4 -1.38,25.86 ; -1.38,27.48 -1.38,30.94 ; -1.38,35.1 -1.38,32.56 -1.38,35.67 1.38,35.67 1.38,35.1 2.85,35.1 ; 1.38,-30.94 1.38,-27.48 ; 1.38,-25.86 1.38,-22.4 ; 1.38,-20.78 1.38,-17.32 ; 1.38,-15.7 1.38,-12.24 ; 1.38,-10.62 1.38,-7.16 ; 1.38,-5.54 1.38,-2.08 ; 1.38,-0.46 1.38,3 ; 1.38,4.62 1.38,8.08 ; 1.38,9.7 1.38,13.16 ; 1.38,14.78 1.38,18.24 ; 1.38,19.86 1.38,23.32 ; 1.38,24.94 1.38,28.4 ; 1.38,30.02 1.38,33.48
Top Assembly:
  lines w0.254: -1.27,-34.61 -2.54,-34.61 -2.54,-33.97 -1.27,-33.97 ; -1.27,-29.53 -2.54,-29.53 -2.54,-28.89 -1.27,-28.89 ; -1.27,-24.45 -2.54,-24.45 -2.54,-23.81 -1.27,-23.81 ; -1.27,-19.37 -2.54,-19.37 -2.54,-18.73 -1.27,-18.73 ; -1.27,-14.29 -2.54,-14.29 -2.54,-13.65 -1.27,-13.65 ; -1.27,-9.21 -2.54,-9.21 -2.54,-8.57 -1.27,-8.57 ; -1.27,-4.13 -2.54,-4.13 -2.54,-3.49 -1.27,-3.49 ; -1.27,0.95 -2.54,0.95 -2.54,1.59 -1.27,1.59 ; -1.27,6.03 -2.54,6.03 -2.54,6.67 -1.27,6.67 ; -1.27,11.11 -2.54,11.11 -2.54,11.75 -1.27,11.75 ; -1.27,16.19 -2.54,16.19 -2.54,16.83 -1.27,16.83 ; -1.27,21.27 -2.54,21.27 -2.54,21.91 -1.27,21.91 ; -1.27,26.35 -2.54,26.35 -2.54,26.99 -1.27,26.99 ; -1.27,31.43 -2.54,31.43 -2.54,32.07 -1.27,32.07 ; 1.27,-32.07 2.54,-32.07 2.54,-31.43 1.27,-31.43 ; 1.27,-26.99 2.54,-26.99 2.54,-26.35 1.27,-26.35 ; 1.27,-21.91 2.54,-21.91 2.54,-21.27 1.27,-21.27 ; 1.27,-16.83 2.54,-16.83 2.54,-16.19 1.27,-16.19 ; 1.27,-11.75 2.54,-11.75 2.54,-11.11 1.27,-11.11 ; 1.27,-6.67 2.54,-6.67 2.54,-6.03 1.27,-6.03 ; 1.27,-1.59 2.54,-1.59 2.54,-0.95 1.27,-0.95 ; 1.27,3.49 2.54,3.49 2.54,4.13 1.27,4.13 ; 1.27,8.57 2.54,8.57 2.54,9.21 1.27,9.21 ; 1.27,13.65 2.54,13.65 2.54,14.29 1.27,14.29 ; 1.27,18.73 2.54,18.73 2.54,19.37 1.27,19.37 ; 1.27,23.81 2.54,23.81 2.54,24.45 1.27,24.45 ; 1.27,28.89 2.54,28.89 2.54,29.53 1.27,29.53 ; 1.27,33.97 2.54,33.97 2.54,34.61 1.27,34.61 ; 1.27,34.61 1.27,-35.56 -1.27,-35.56 -1.27,35.56 0.32,35.56 1.27,34.61
  text "'.Designator'" at 0.84,-4.047 h1
Top Courtyard:
  lines w0.254: -3.41,-36.06 3.41,-36.06 3.41,36.06 -3.41,36.06 -3.41,-36.06
Top Designator:
  text ".Designator" at -7.618,-0.508 h1.52

## PinHeader_1x29_P2.54mm_Horizontal [mm]
pads (29):
  rect 1.7x1.7 hole 1: 1(0,0)
  round 1.7 hole 1: 2(0,-2.54) 3(0,-5.08) 4(0,-7.62) 5(0,-10.16) 6(0,-12.7) 7(0,-15.24) 8(0,-17.78) 9(0,-20.32) 10(0,-22.86) 11(0,-25.4) 12(0,-27.94) 13(0,-30.48) 14(0,-33.02) 15(0,-35.56) 16(0,-38.1) 17(0,-40.64) 18(0,-43.18) 19(0,-45.72) 20(0,-48.26) 21(0,-50.8) 22(0,-53.34) 23(0,-55.88) 24(0,-58.42) 25(0,-60.96) 26(0,-63.5) 27(0,-66.04) 28(0,-68.58) 29(0,-71.12)
F.SilkS:
  drawing of 180 lines, arcs and shapes, not listed
Top Assembly:
  drawing of 179 lines, arcs and shapes, not listed
  text "'.Designator'" at 3.61,-39.607 h1
Top Courtyard:
  lines w0.254: -1.77,-72.89 10.54,-72.89 10.54,1.77 -1.77,1.77 -1.77,-72.89
Top Designator:
  text ".Designator" at -3.233,-36.068 h1.52

## PinHeader_1x29_P2.54mm_Vertical [mm]
pads (29):
  rect 1.7x1.7 hole 1: 1(0,0)
  round 1.7 hole 1: 2(0,-2.54) 3(0,-5.08) 4(0,-7.62) 5(0,-10.16) 6(0,-12.7) 7(0,-15.24) 8(0,-17.78) 9(0,-20.32) 10(0,-22.86) 11(0,-25.4) 12(0,-27.94) 13(0,-30.48) 14(0,-33.02) 15(0,-35.56) 16(0,-38.1) 17(0,-40.64) 18(0,-43.18) 19(0,-45.72) 20(0,-48.26) 21(0,-50.8) 22(0,-53.34) 23(0,-55.88) 24(0,-58.42) 25(0,-60.96) 26(0,-63.5) 27(0,-66.04) 28(0,-68.58) 29(0,-71.12)
F.SilkS:
  lines w0.254: -1.38,0 -1.38,1.38 0,1.38 ; -1.38,-72.5 1.38,-72.5 1.38,-1.27 -1.38,-1.27 -1.38,-72.5
Top Assembly:
  lines w0.254: -1.27,-72.39 1.27,-72.39 1.27,1.27 -0.635,1.27 -1.27,0.635 -1.27,-72.39
  text "'.Designator'" at 0.84,-39.607 h1
Top Courtyard:
  lines w0.254: -1.77,-72.89 1.77,-72.89 1.77,1.77 -1.77,1.77 -1.77,-72.89
Top Designator:
  text ".Designator" at -7.618,-36.068 h1.52